# Altium integrated library NXP_60_26022015.IntLib: 1306 symbols (part 25 of 28)
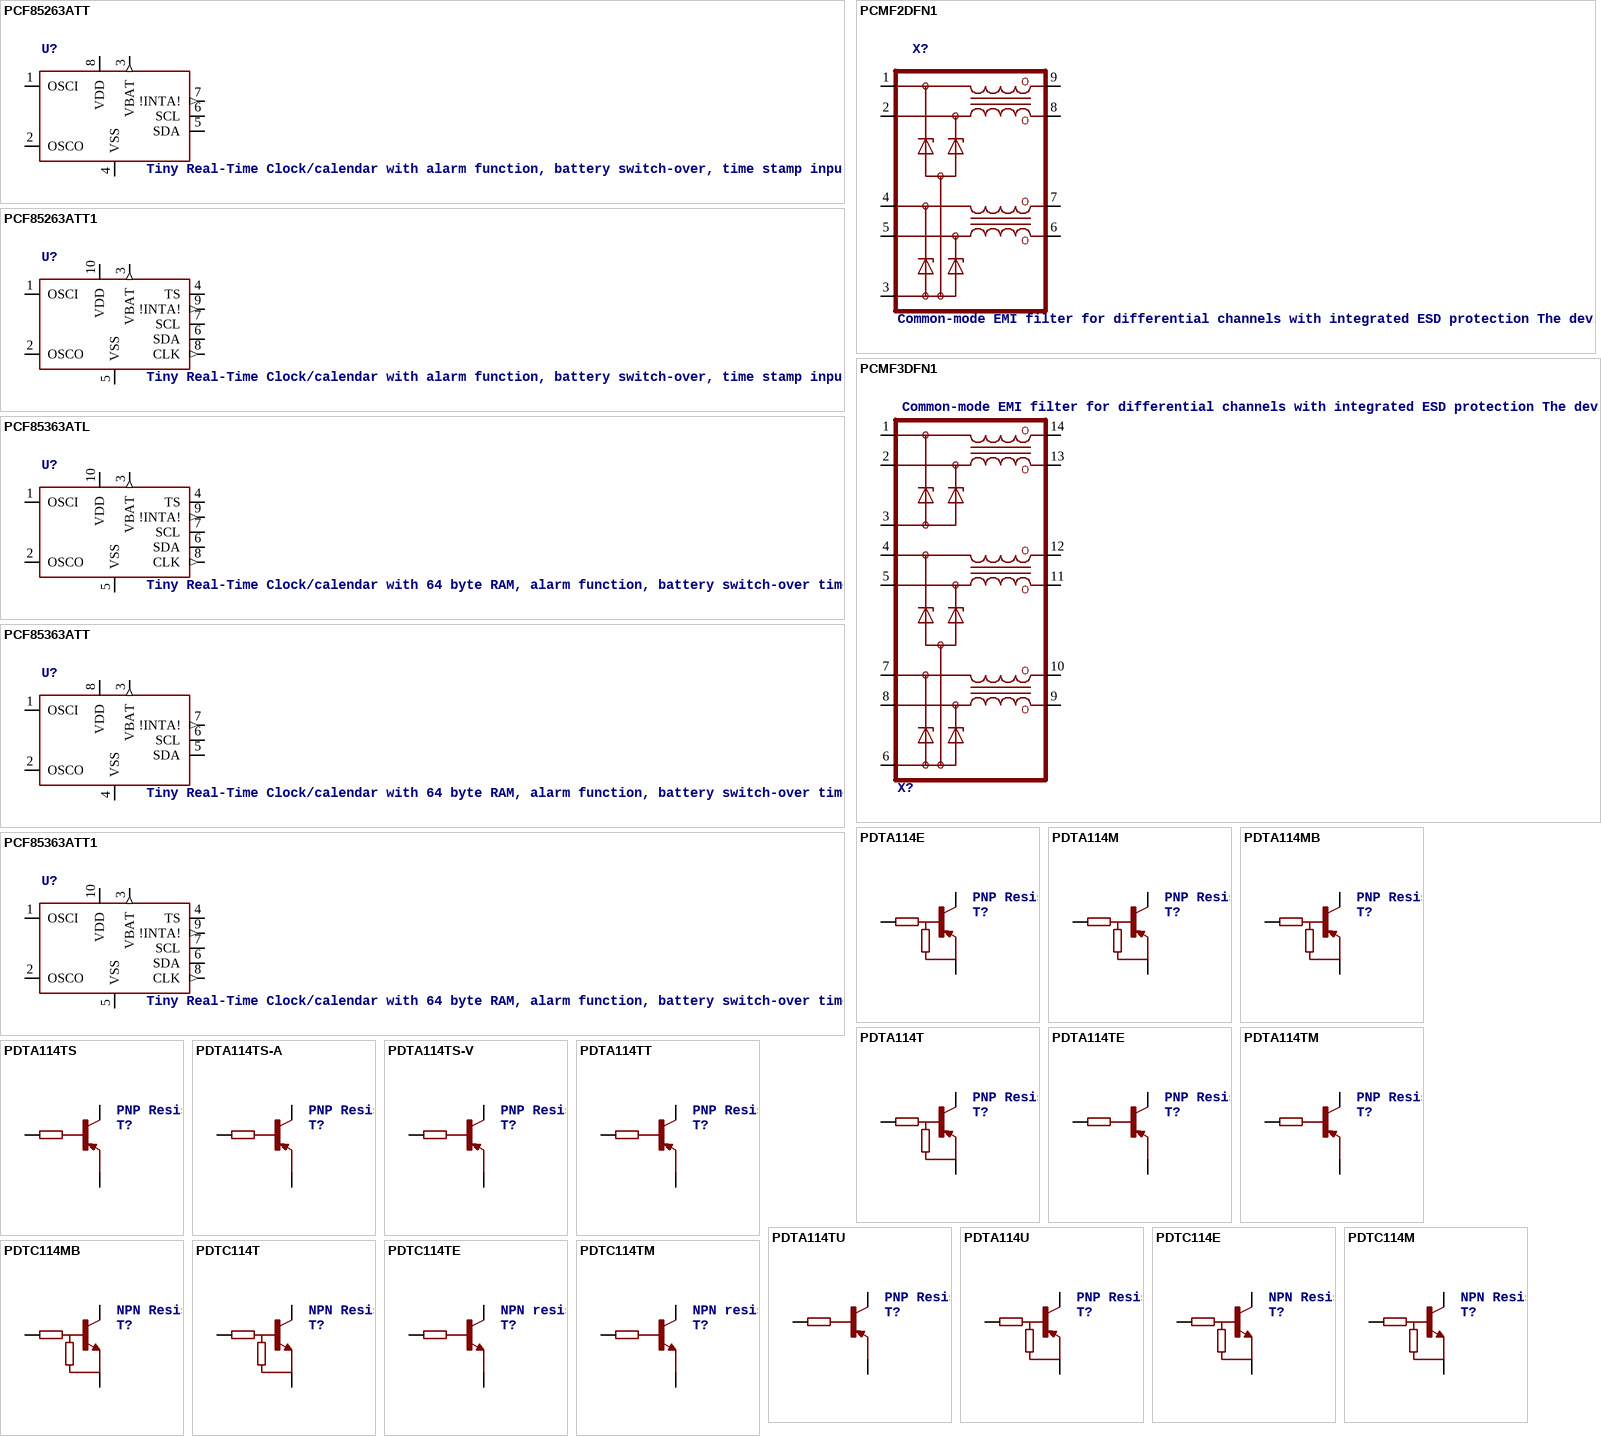
[diagram p209: symbols PCF85263ATT to PDTC114TM]

## PCF85363ATL
designator U?, comment Tiny Real-Time Clock/calendar with 64 byte RAM, alarm function, battery switch-over time stamp input, and I2C-buss The PCF85363A is a CMOS1 Real-Time Clock (RTC) and calendar optimized for low power consumption and with automatic switching to battery on main power loss. The RTC can also be configured as a stop-watch (elapsed time counter). Three time log registers triggered from battery switch-over as well as input driven events. Featuring clock output and two independent interrupt signals, two alarms, I2C interface and quartz crystal calibration, 64 byte battery backed-up RAM.    AAL Eindhoven MK
footprint SOT1197-1
pins: 1 OSCI, 2 OSCO, 3 VBAT (out), 4 TS, 5 VSS (power), 6 SDA, 7 SCL, 8 CLK (out), 9 !INTA! (out), 10 VDD (power)

## PCF85363ATT
designator U?, comment Tiny Real-Time Clock/calendar with 64 byte RAM, alarm function, battery switch-over time stamp input, and I2C-bus The PCF85363A is a CMOS1 Real-Time Clock (RTC) and calendar optimized for low power consumption and with automatic switching to battery on main power loss. The RTC can also be configured as a stop-watch (elapsed time counter). Three time log registers triggered from battery switch-over as well as input driven events. Featuring clock output and two independent interrupt signals, two alarms, I2C interface and quartz crystal calibration, 64 byte battery backed-up RAM.    AAL Eindhoven MK
footprint SOT505-1
pins: 1 OSCI, 2 OSCO, 3 VBAT (out), 4 VSS (power), 5 SDA, 6 SCL, 7 !INTA! (out), 8 VDD (power)

## PCF85363ATT1
designator U?, comment Tiny Real-Time Clock/calendar with 64 byte RAM, alarm function, battery switch-over time stamp input, and I2C-buss The PCF85363A is a CMOS1 Real-Time Clock (RTC) and calendar optimized for low power consumption and with automatic switching to battery on main power loss. The RTC can also be configured as a stop-watch (elapsed time counter). Three time log registers triggered from battery switch-over as well as input driven events. Featuring clock output and two independent interrupt signals, two alarms, I2C interface and quartz crystal calibration, 64 byte battery backed-up RAM.    AAL Eindhoven MK
footprint SOT552-1
pins: 1 OSCI, 2 OSCO, 3 VBAT (out), 4 TS, 5 VSS (power), 6 SDA, 7 SCL, 8 CLK (out), 9 !INTA! (out), 10 VDD (power)

## PCMF2DFN1
designator X?, comment Common-mode EMI filter for differential channels with integrated ESD protection The devices are common-mode ElectroMagnetic Interference (EMI) filters with integrated ElectroStatic Discharge (ESD) protection for two and three differential channels. The devices are designed to provide low insertion loss for differential high-speed signals on each channel while unwanted common-mode signals are attenuated. Each differential channel incorporates two signal lines that are coupled by integrated coils. Diodes provide protection to downstream components from ESD voltages up to 15 kV on each signal line.    AAL Eindhoven MK
footprint SOT1333-1
pins: 1, 2, 3 (power), 4, 5, 6, 7, 8, 9

## PCMF3DFN1
designator X?, comment Common-mode EMI filter for differential channels with integrated ESD protection The devices are common-mode ElectroMagnetic Interference (EMI) filters with integrated ElectroStatic Discharge (ESD) protection for two and three differential channels. The devices are designed to provide low insertion loss for differential high-speed signals on each channel while unwanted common-mode signals are attenuated. Each differential channel incorporates two signal lines that are coupled by integrated coils. Diodes provide protection to downstream components from ESD voltages up to 15 kV on each signal line.    AAL Eindhoven MK
footprint SOT1334-1
pins: 1, 2, 3, 4, 5, 6 (power), 7, 8, 9, 10, 11, 12, 13, 14

## PDTA114E
designator T?, comment PNP Resistor-Equipped Transistor (RET) family in small Surface-Mounted Device (SMD) plastic packages.   AAL Eindhoven MK
footprint SOT416
pins: 1 INPUT, 2 E, 3 C

## PDTA114M
designator T?, comment PNP Resistor-Equipped Transistor (RET) family in small Surface-Mounted Device (SMD) plastic packages.   AAL Eindhoven MK
footprint SOT883(B)
pins: 1 INPUT, 2 E, 3 C

## PDTA114MB
designator T?, comment PNP Resistor-Equipped Transistor (RET) family in small Surface-Mounted Device (SMD) plastic packages.   AAL Eindhoven MK
footprint SOT883(B)
pins: 1 INPUT, 2 E, 3 C

## PDTA114T
designator T?, comment PNP Resistor-Equipped Transistor (RET) family in small Surface-Mounted Device (SMD) plastic packages.   AAL Eindhoven MK
footprint SOT23
pins: 1 INPUT, 2 E, 3 C

## PDTA114TE
designator T?, comment PNP Resistor-Equipped Transistor (RET) family in small Surface-Mounted Device (SMD) plastic packages.   AAL Eindhoven MK
footprint SOT416
pins: 1 INPUT, 2 E, 3 C

## PDTA114TM
designator T?, comment PNP Resistor-Equipped Transistor (RET) family in small Surface-Mounted Device (SMD) plastic packages.   AAL Eindhoven MK
footprint SOT883(B)
pins: 1 INPUT, 2 E, 3 C

## PDTA114TS
designator T?, comment PNP Resistor-Equipped Transistor (RET) family in small Surface-Mounted Device (SMD) plastic packages.   AAL Eindhoven MK
footprint SOT54
pins: 1 INPUT, 2 C, 3 E

## PDTA114TS-A
designator T?, comment PNP Resistor-Equipped Transistor (RET) family in small Surface-Mounted Device (SMD) plastic packages.   AAL Eindhoven MK
footprint SOT54A
pins: 1 INPUT, 2 C, 3 E

## PDTA114TS-V
designator T?, comment PNP Resistor-Equipped Transistor (RET) family in small Surface-Mounted Device (SMD) plastic packages.   AAL Eindhoven MK
footprint SOT54V
pins: 1 INPUT, 2 C, 3 E

## PDTA114TT
designator T?, comment PNP Resistor-Equipped Transistor (RET) family in small Surface-Mounted Device (SMD) plastic packages.   AAL Eindhoven MK
footprint SOT23
pins: 1 INPUT, 2 E, 3 C

## PDTA114TU
designator T?, comment PNP Resistor-Equipped Transistor (RET) family in small Surface-Mounted Device (SMD) plastic packages.   AAL Eindhoven MK
footprint SOT323
pins: 1 INPUT, 2 E, 3 C

## PDTA114U
designator T?, comment PNP Resistor-Equipped Transistor (RET) family in small Surface-Mounted Device (SMD) plastic packages.   AAL Eindhoven MK
footprint SOT323
pins: 1 INPUT, 2 E, 3 C

## PDTC114E
designator T?, comment NPN Resistor-Equipped Transistor (RET) family in small Surface-Mounted Device (SMD) plastic packages.   AAL Eindhoven MK
footprint SOT416
pins: 1 INPUT, 2 E, 3 C

## PDTC114M
designator T?, comment NPN Resistor-Equipped Transistor (RET) family in small Surface-Mounted Device (SMD) plastic packages.   AAL Eindhoven MK
footprint SOT883(B)
pins: 1 INPUT, 2 E, 3 C

## PDTC114MB
designator T?, comment NPN Resistor-Equipped Transistor (RET) family in small Surface-Mounted Device (SMD) plastic packages.   AAL Eindhoven MK
footprint SOT883(B)
pins: 1 INPUT, 2 E, 3 C

## PDTC114T
designator T?, comment NPN Resistor-Equipped Transistor (RET) family in small Surface-Mounted Device (SMD) plastic packages.   AAL Eindhoven MK
footprint SOT23
pins: 1 INPUT, 2 E, 3 C

## PDTC114TE
designator T?, comment NPN resistor-equipped transistors; R1 = 10 kΩ, R2 = open NPN Resistor-Equipped Transistor (RET) family in small Surface-Mounted Device (SMD) plastic packages.    AAL Eindhoven MK
footprint SOT416
pins: 1 INPUT, 2 E, 3 C

## PDTC114TM
designator T?, comment NPN resistor-equipped transistors; R1 = 10 kΩ, R2 = open NPN Resistor-Equipped Transistor (RET) family in small Surface-Mounted Device (SMD) plastic packages.    AAL Eindhoven MK
footprint SOT883(B)
pins: 1 INPUT, 2 E, 3 C

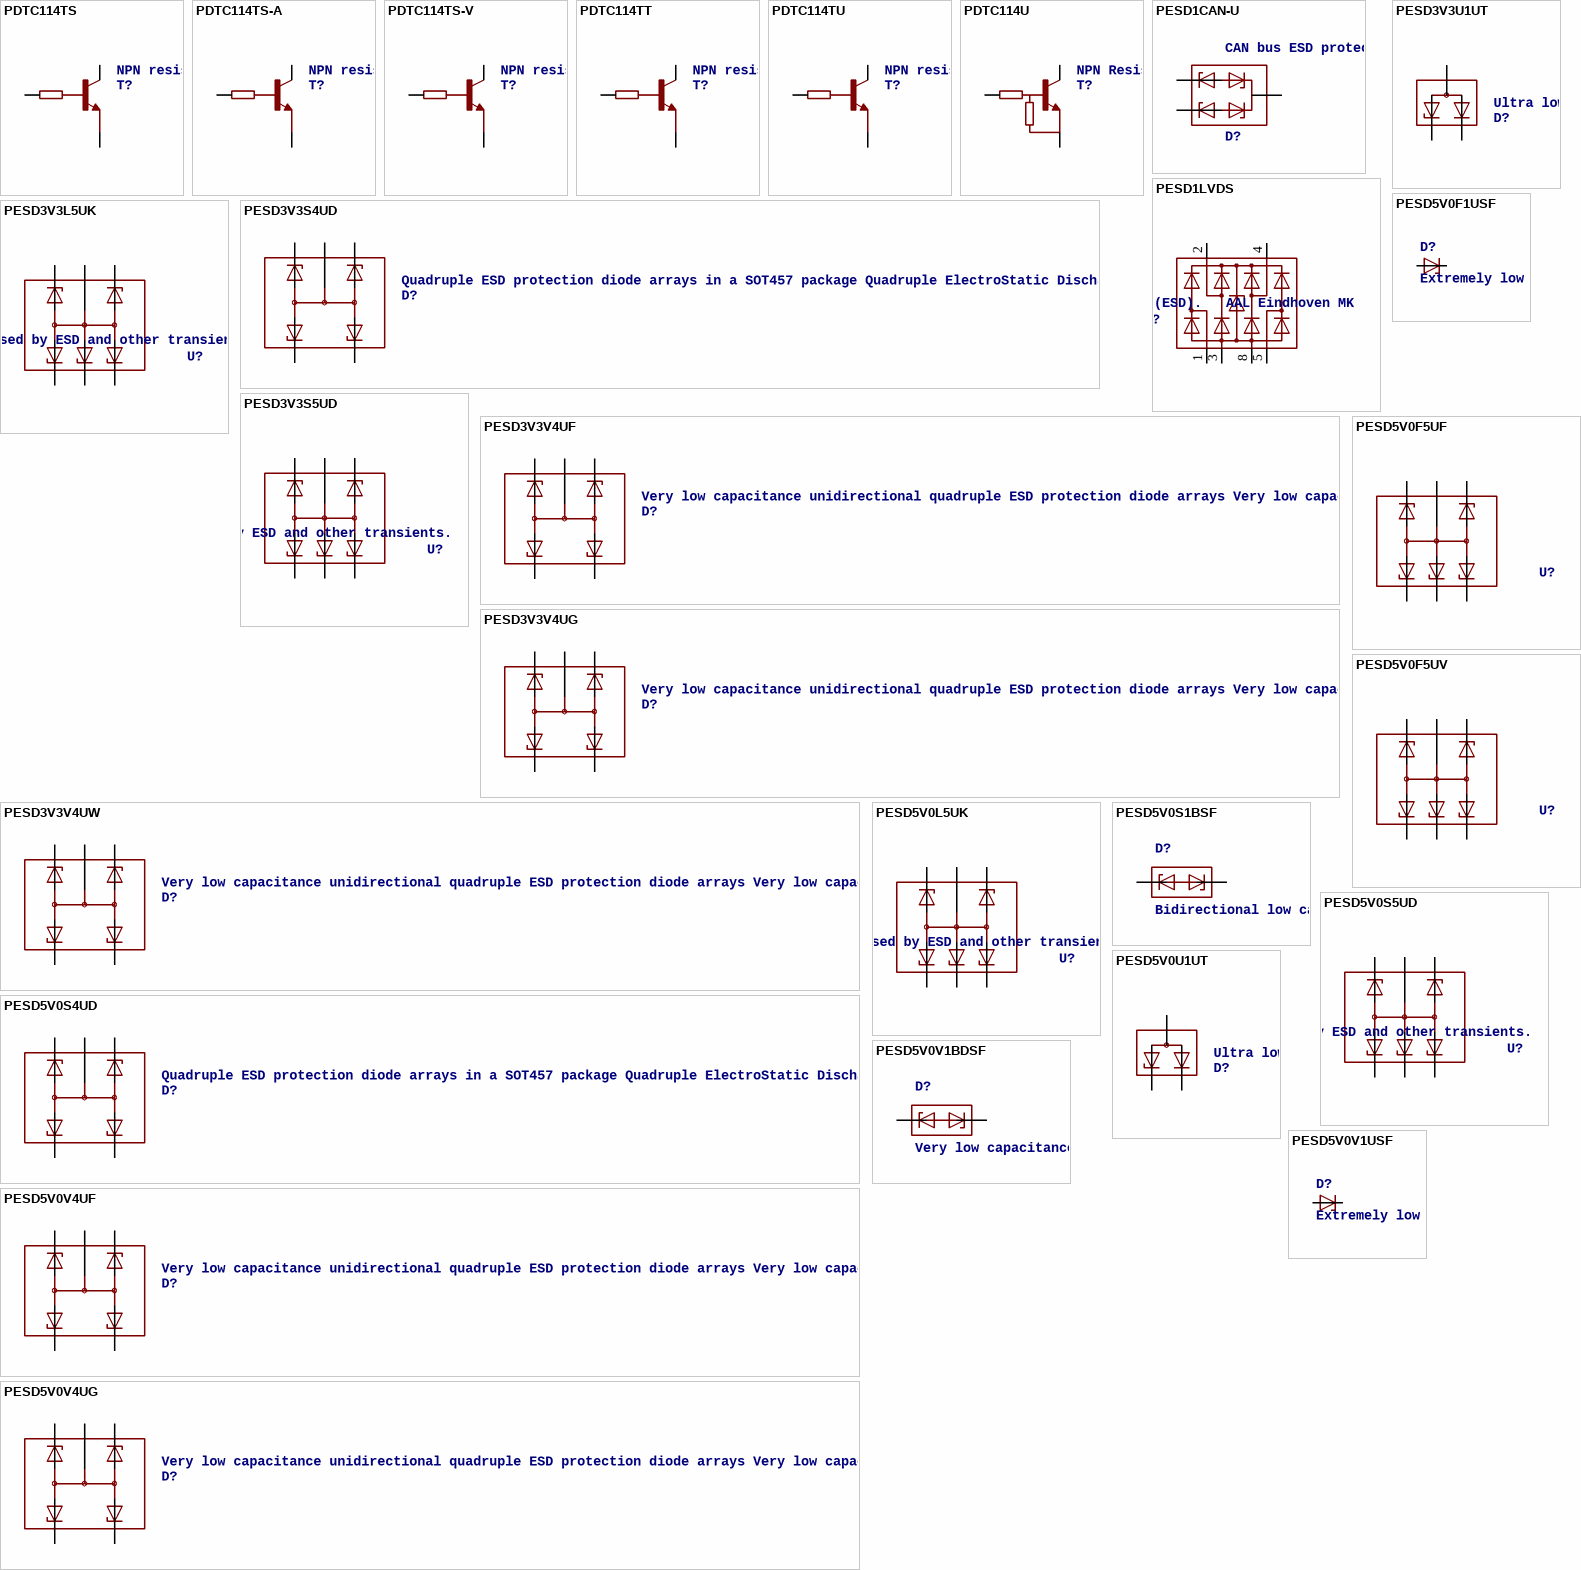
[diagram p167: symbols PDTC114TS to PESD5V0V4UG]

## PDTC114TS
designator T?, comment NPN resistor-equipped transistors; R1 = 10 kΩ, R2 = open NPN Resistor-Equipped Transistor (RET) family in small Surface-Mounted Device (SMD) plastic packages.    AAL Eindhoven MK
footprint SOT54
pins: 1 INPUT, 2 C, 3 E

## PDTC114TS-A
designator T?, comment NPN resistor-equipped transistors; R1 = 10 kΩ, R2 = open NPN Resistor-Equipped Transistor (RET) family in small Surface-Mounted Device (SMD) plastic packages.    AAL Eindhoven MK
footprint SOT54A
pins: 1 INPUT, 2 C, 3 E

## PDTC114TS-V
designator T?, comment NPN resistor-equipped transistors; R1 = 10 kΩ, R2 = open NPN Resistor-Equipped Transistor (RET) family in small Surface-Mounted Device (SMD) plastic packages.    AAL Eindhoven MK
footprint SOT54V
pins: 1 INPUT, 2 C, 3 E

## PDTC114TT
designator T?, comment NPN resistor-equipped transistors; R1 = 10 kΩ, R2 = open NPN Resistor-Equipped Transistor (RET) family in small Surface-Mounted Device (SMD) plastic packages.    AAL Eindhoven MK
footprint SOT23
pins: 1 INPUT, 2 E, 3 C

## PDTC114TU
designator T?, comment NPN resistor-equipped transistors; R1 = 10 kΩ, R2 = open NPN Resistor-Equipped Transistor (RET) family in small Surface-Mounted Device (SMD) plastic packages.    AAL Eindhoven MK
footprint SOT323
pins: 1 INPUT, 2 E, 3 C

## PDTC114U
designator T?, comment NPN Resistor-Equipped Transistor (RET) family in small Surface-Mounted Device (SMD) plastic packages.   AAL Eindhoven MK
footprint SOT323
pins: 1 INPUT, 2 E, 3 C

## PESD1CAN-U
designator D?, comment CAN bus ESD protection diode ElectroStatic Discharge (ESD) protection diode in a very small SOT323 (SC-70 ) Surface-Mounted Device (SMD) plastic package designed to protect two automotive Controller Area Network (CAN) bus lines from the damage caused by ESD and other transients.    AAL Eindhoven MK
footprint SOT323
pins: 1 K1, 2 K2, 3 CK

## PESD1LVDS
designator ?, comment ESD protection for in-vehicle ultra high-speed interfaces The device is designed to protect in-vehicle ultra high-speed interfaces in automotive applications, such as Low-Voltage Differential Signaling (LVDS), High-Definition Multimedia Interface (HDMI) and DisplayPort interfaces against ElectroStatic Discharge (ESD).   AAL Eindhoven MK
footprint SOT1165-1
pins: 1 CH1-, 2 CH1+, 3 GND@1 (power), 4 CH2-, 5 CH2+, 8 GND@2 (power)

## PESD3V3L5UK
designator U?, comment Low capacitance unidirectional fivefold ESD protection diode arrays Low capacitance unidirectional fivefold ElectroStatic Discharge (ESD) protection diode arrays in a leadless ultra small SOT891 Surface-Mounted Device (SMD) plastic package designed to protect up to five unidirectional signal lines from the damage caused by ESD and other transients.    AAL Eindhoven MK
footprint SOT891
pins: 1 K1, 2 CA, 3 K2, 4 K3, 5 K4, 6 K5

## PESD3V3S4UD
designator D?, comment Quadruple ESD protection diode arrays in a SOT457 package Quadruple ElectroStatic Discharge (ESD) protection diode arrays in a SOT457 (SC-74) small Surface-Mounted Device (SMD) plastic package designed to protect up to 4 signal lines from the damage caused by ESD and other transients.    AAL Eindhoven MK
footprint SOT457
pins: 1 K1, 2 5 CA, 3 K2, 4 K3, 6 K4

## PESD3V3S5UD
designator U?, comment Fivefold ESD protection diode arrays Fivefold ElectroStatic Discharge (ESD) protection diode arrays in a SOT457 (SC-74) small Surface-Mounted Device (SMD) plastic package designed to protect up to ﬁve signal lines from the damage caused by ESD and other transients.    AAL Eindhoven MK
footprint SOT457
pins: 1 K1, 2 CA, 3 K2, 4 K3, 5 K4, 6 K5

## PESD3V3U1UT
designator D?, comment Ultra low capacitance ESD protection diode in SOT23 package Ultra low capacitance ElectroStatic Discharge (ESD) protection diode in a SOT23 (TO-236AB) small SMD plastic package designed to protect one high-speed data line from the damage caused by ESD and other transients.    AAL Eindhoven MK
footprint SOT23
pins: 1 KESD, 2 KD, 3 CA

## PESD3V3V4UF
designator D?, comment Very low capacitance unidirectional quadruple ESD protection diode arrays Very low capacitance unidirectional quadruple ElectroStatic Discharge (ESD) protection diode arrays in small Surface-Mounted Device (SMD) plastic packages designed to protect up to four signal lines from the damage caused by ESD and other transients.    AAL Eindhoven MK
footprint SOT886
pins: 1 K1, 2 5 CA, 3 K2, 4 K3, 6 K4

## PESD3V3V4UG
designator D?, comment Very low capacitance unidirectional quadruple ESD protection diode arrays Very low capacitance unidirectional quadruple ElectroStatic Discharge (ESD) protection diode arrays in small Surface-Mounted Device (SMD) plastic packages designed to protect up to four signal lines from the damage caused by ESD and other transients.    AAL Eindhoven MK
footprint SOT353-1
pins: 1 K1, 2 CA, 3 K2, 4 K3, 5 K4

## PESD3V3V4UW
designator D?, comment Very low capacitance unidirectional quadruple ESD protection diode arrays Very low capacitance unidirectional quadruple ElectroStatic Discharge (ESD) protection diode arrays in small Surface-Mounted Device (SMD) plastic packages designed to protect up to four signal lines from the damage caused by ESD and other transients.    AAL Eindhoven MK
footprint SOT665
pins: 1 K1, 2 CA, 3 K2, 4 K3, 5 K4

## PESD5V0F1USF
designator D?, comment Extremely low capacitance unidirectional ESD protection diode Extremely low capacitance unidirectional ElectroStatic Discharge (ESD) protection diode in a DSN0603-2 (SOD962) leadless ultra small Surface-Mounted Device (SMD) package designed to protect one signal line from the damage caused by ESD and other transients.    AAL Eindhoven MK
footprint SOD962
pins: 1 K, 2 A

## PESD5V0F5UF
designator U?, comment Femtofarad unidirectional fivefold ESD protection array Femtofarad capacitance unidirectional ElectroStatic Discharge (ESD) protection diode array designed to protect up to five signal lines from the damage caused by ESD and other transients. The device is encapsulated in a leadless ultra small DFN1410-6 (SOT886) Surface-Mounted Device (SMD) plastic package. The combination of extremely low capacitance, high ESD maximum rating and ultra small package makes the device ideal for high-speed data line protection and antenna protection applications.    AAL Eindhoven MK
footprint SOT886
pins: 1 K1, 2 CA, 3 K2, 4 K3, 5 K4, 6 K5

## PESD5V0F5UV
designator U?, comment Femtofarad unidirectional fivefold ESD protection array Femtofarad capacitance unidirectional ElectroStatic Discharge (ESD) protection diode array designed to protect up to five signal lines from the damage caused by ESD and other transients. The device is encapsulated in an ultra small and flat lead SOT666 Surface-Mounted Device (SMD) plastic package. The combination of extremely low capacitance, high ESD maximum rating and ultra small package makes the device ideal for high-speed data line protection and antenna protection applications.    AAL Eindhoven MK
footprint SOT666
pins: 1 K1, 2 CA, 3 K2, 4 K3, 5 K4, 6 K5

## PESD5V0L5UK
designator U?, comment Low capacitance unidirectional fivefold ESD protection diode arrays Low capacitance unidirectional fivefold ElectroStatic Discharge (ESD) protection diode arrays in a leadless ultra small SOT891 Surface-Mounted Device (SMD) plastic package designed to protect up to five unidirectional signal lines from the damage caused by ESD and other transients.    AAL Eindhoven MK
footprint SOT891
pins: 1 K1, 2 CA, 3 K2, 4 K3, 5 K4, 6 K5

## PESD5V0S1BSF
designator D?, comment Bidirectional low capacitance ESD protection diode Low capacitance bidirectional ElectroStatic Discharge (ESD) protection diode in a SOD962 leadless ultra small Surface-Mounted Device (SMD) package designed to protect one signal line from the damage caused by ESD and other transients.    AAL Eindhoven MK
footprint SOD962
pins: 1 K1, 2 K2

## PESD5V0S4UD
designator D?, comment Quadruple ESD protection diode arrays in a SOT457 package Quadruple ElectroStatic Discharge (ESD) protection diode arrays in a SOT457 (SC-74) small Surface-Mounted Device (SMD) plastic package designed to protect up to 4 signal lines from the damage caused by ESD and other transients.    AAL Eindhoven MK
footprint SOT457
pins: 1 K1, 2 5 CA, 3 K2, 4 K3, 6 K4

## PESD5V0S5UD
designator U?, comment Fivefold ESD protection diode arrays Fivefold ElectroStatic Discharge (ESD) protection diode arrays in a SOT457 (SC-74) small Surface-Mounted Device (SMD) plastic package designed to protect up to ﬁve signal lines from the damage caused by ESD and other transients.    AAL Eindhoven MK
footprint SOT457
pins: 1 K1, 2 CA, 3 K2, 4 K3, 5 K4, 6 K5

## PESD5V0U1UT
designator D?, comment Ultra low capacitance ESD protection diode in SOT23 package Ultra low capacitance ElectroStatic Discharge (ESD) protection diode in a SOT23 (TO-236AB) small SMD plastic package designed to protect one high-speed data line from the damage caused by ESD and other transients.    AAL Eindhoven MK
footprint SOT23
pins: 1 KESD, 2 KD, 3 CA

## PESD5V0V1BDSF
designator D?, comment Very low capacitance bidirectional ESD protection diode Very low capacitance bidirectional ElectroStatic Discharge (ESD) protection diode in a DSN0603-2 (SOD962) leadless ultra small Surface-Mounted Device (SMD) package designed to protect one signal line from the damage caused by ESD and other transients.    AAL Eindhoven MK
footprint SOD962
pins: 1 K1, 2 K2

## PESD5V0V1USF
designator D?, comment Extremely low capacitance unidirectional ESD protection diode Very low capacitance unidirectional ElectroStatic Discharge (ESD) protection diode designed to protect one signal line from the damage caused by ESD and other transients. The device is encapsulated in a leadless super small DSN0603-2 (SOD962) Surface-Mounted Device (SMD) package.    AAL Eindhoven MK
footprint SOD962
pins: 1 K, 2 A

## PESD5V0V4UF
designator D?, comment Very low capacitance unidirectional quadruple ESD protection diode arrays Very low capacitance unidirectional quadruple ElectroStatic Discharge (ESD) protection diode arrays in small Surface-Mounted Device (SMD) plastic packages designed to protect up to four signal lines from the damage caused by ESD and other transients.    AAL Eindhoven MK
footprint SOT886
pins: 1 K1, 2 5 CA, 3 K2, 4 K3, 6 K4

## PESD5V0V4UG
designator D?, comment Very low capacitance unidirectional quadruple ESD protection diode arrays Very low capacitance unidirectional quadruple ElectroStatic Discharge (ESD) protection diode arrays in small Surface-Mounted Device (SMD) plastic packages designed to protect up to four signal lines from the damage caused by ESD and other transients.    AAL Eindhoven MK
footprint SOT353-1
pins: 1 K1, 2 CA, 3 K2, 4 K3, 5 K4

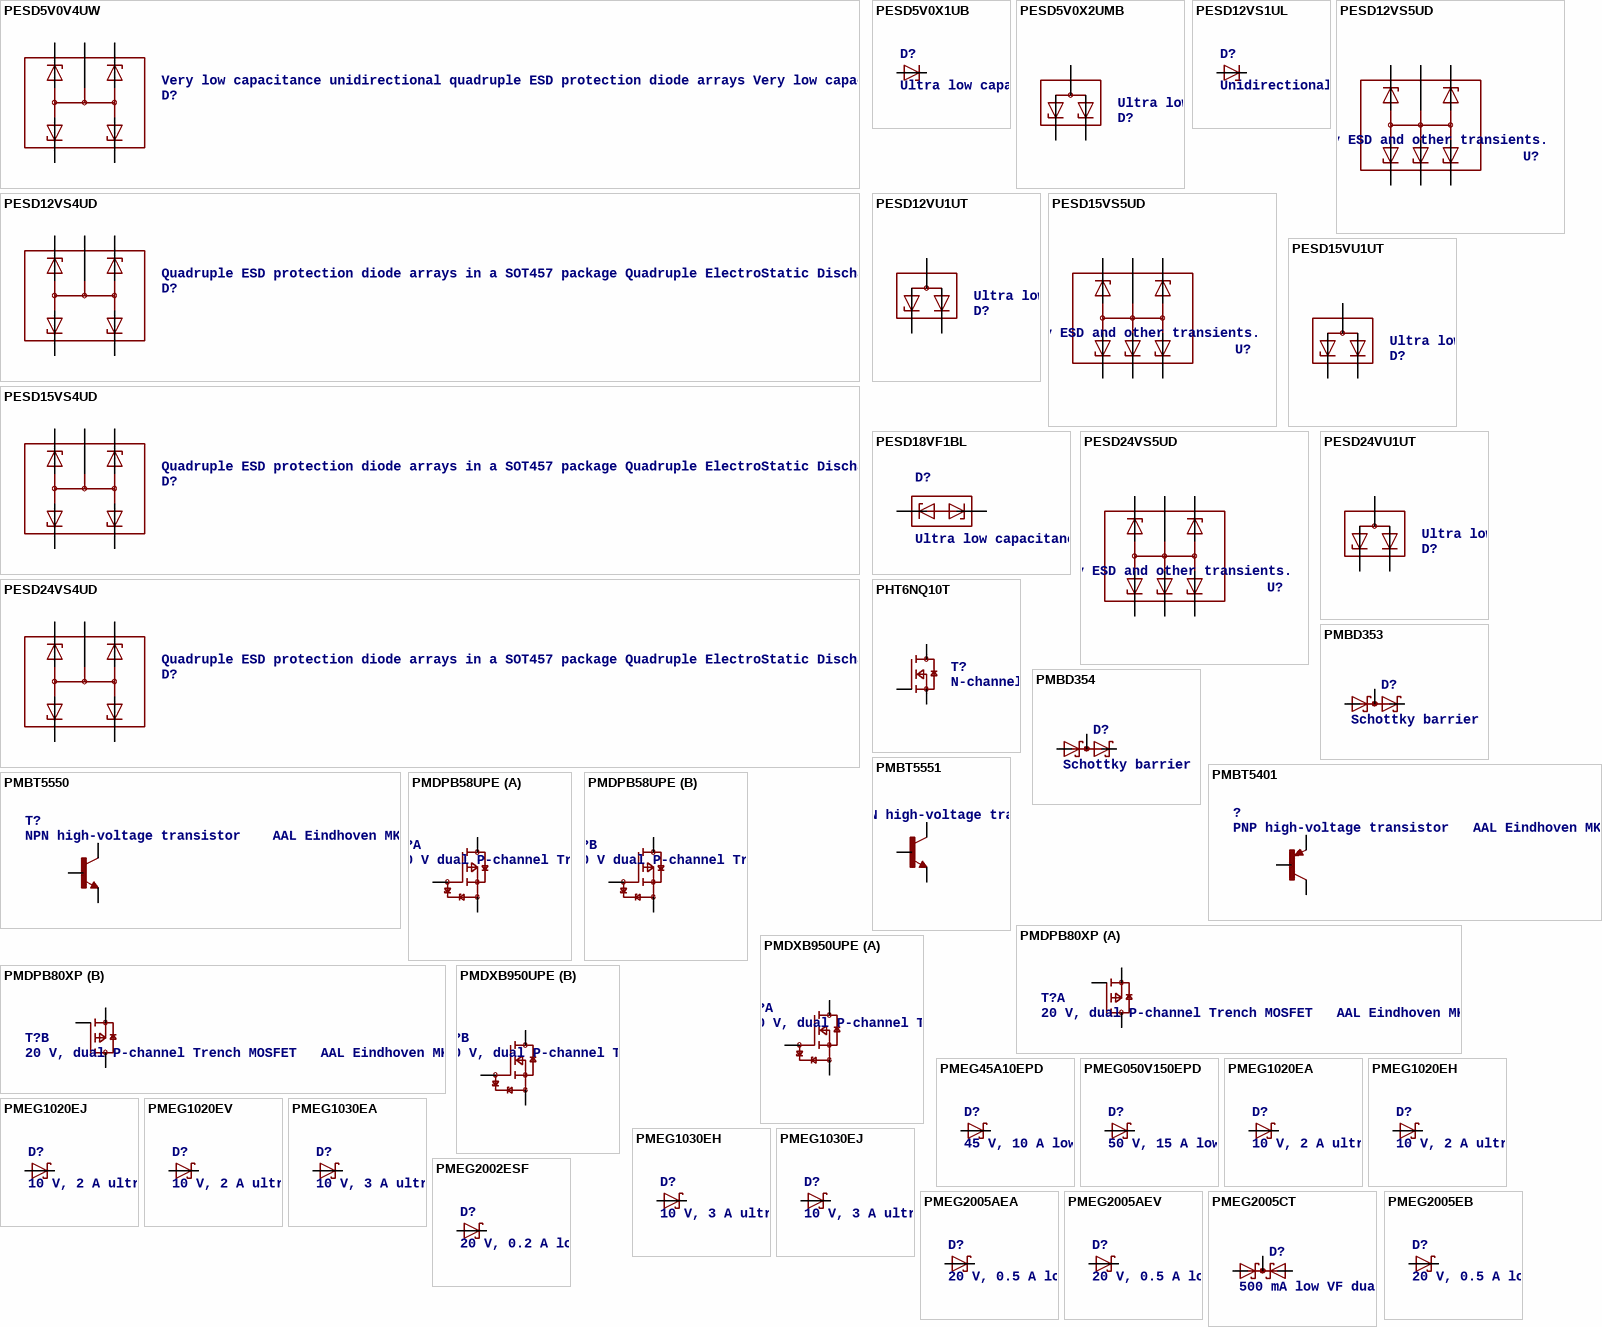
[diagram p168: symbols PESD5V0V4UW to PMEG2005EB]

## PESD5V0V4UW
designator D?, comment Very low capacitance unidirectional quadruple ESD protection diode arrays Very low capacitance unidirectional quadruple ElectroStatic Discharge (ESD) protection diode arrays in small Surface-Mounted Device (SMD) plastic packages designed to protect up to four signal lines from the damage caused by ESD and other transients.    AAL Eindhoven MK
footprint SOT665
pins: 1 K1, 2 CA, 3 K2, 4 K3, 5 K4

## PESD5V0X1UB
designator D?, comment Ultra low capacitance unidirectional ESD protection diode Ultra low capacitance unidirectional ElectroStatic Discharge (ESD) protection diode in a SOD523 (SC-79) ultra small and flat lead Surface-Mounted Device (SMD) plastic package designed to protect one signal line from the damage caused by ESD and other transients. The combination of extremely low capacitance and ultra low clamping voltage makes the device ideal for high-speed data line protection applications.    AAL Eindhoven MK
footprint SOD523
pins: 1 K, 2 A

## PESD5V0X2UMB
designator D?, comment Ultra low capacitance unidirectional double ESD protection diode Ultra low capacitance unidirectional double ElectroStatic Discharge (ESD) protection diode in a DFN1006B-3 (SOT883B) leadless ultra small Surface-Mounted Device (SMD) plastic package designed to protect up to two signal lines from the damage caused by ESD and other transients.    AAL Eindhoven MK
footprint SOT883(B)
pins: 1 K1, 2 K2, 3 CA

## PESD12VS1UL
designator D?, comment Unidirectional ESD protection diodes Unidirectional ElectroStatic Discharge (ESD) protection diodes in a SOD882 leadless ultra small Surface Mounted Device (SMD) plastic package designed to protect one signal line from the damage caused by ESD and other transients.    AAL Eindhoven MK
footprint SOD882(T)
pins: 1 K, 2 A

## PESD12VS4UD
designator D?, comment Quadruple ESD protection diode arrays in a SOT457 package Quadruple ElectroStatic Discharge (ESD) protection diode arrays in a SOT457 (SC-74) small Surface-Mounted Device (SMD) plastic package designed to protect up to 4 signal lines from the damage caused by ESD and other transients.    AAL Eindhoven MK
footprint SOT457
pins: 1 K1, 2 5 CA, 3 K2, 4 K3, 6 K4

## PESD12VS5UD
designator U?, comment Fivefold ESD protection diode arrays Fivefold ElectroStatic Discharge (ESD) protection diode arrays in a SOT457 (SC-74) small Surface-Mounted Device (SMD) plastic package designed to protect up to ﬁve signal lines from the damage caused by ESD and other transients.    AAL Eindhoven MK
footprint SOT457
pins: 1 K1, 2 CA, 3 K2, 4 K3, 5 K4, 6 K5

## PESD12VU1UT
designator D?, comment Ultra low capacitance ESD protection diode in SOT23 package Ultra low capacitance ElectroStatic Discharge (ESD) protection diode in a SOT23 (TO-236AB) small SMD plastic package designed to protect one high-speed data line from the damage caused by ESD and other transients.    AAL Eindhoven MK
footprint SOT23
pins: 1 KESD, 2 KD, 3 CA

## PESD15VS4UD
designator D?, comment Quadruple ESD protection diode arrays in a SOT457 package Quadruple ElectroStatic Discharge (ESD) protection diode arrays in a SOT457 (SC-74) small Surface-Mounted Device (SMD) plastic package designed to protect up to 4 signal lines from the damage caused by ESD and other transients.    AAL Eindhoven MK
footprint SOT457
pins: 1 K1, 2 5 CA, 3 K2, 4 K3, 6 K4

## PESD15VS5UD
designator U?, comment Fivefold ESD protection diode arrays Fivefold ElectroStatic Discharge (ESD) protection diode arrays in a SOT457 (SC-74) small Surface-Mounted Device (SMD) plastic package designed to protect up to ﬁve signal lines from the damage caused by ESD and other transients.    AAL Eindhoven MK
footprint SOT457
pins: 1 K1, 2 CA, 3 K2, 4 K3, 5 K4, 6 K5

## PESD15VU1UT
designator D?, comment Ultra low capacitance ESD protection diode in SOT23 package Ultra low capacitance ElectroStatic Discharge (ESD) protection diode in a SOT23 (TO-236AB) small SMD plastic package designed to protect one high-speed data line from the damage caused by ESD and other transients.    AAL Eindhoven MK
footprint SOT23
pins: 1 KESD, 2 KD, 3 CA

## PESD18VF1BL
designator D?, comment Ultra low capacitance bidirectional ESD protection diode Ultra low capacitance bidirectional ElectroStatic Discharge (ESD) protection diode in a DFN1006-2 (SOD882) leadless ultra small Surface-Mounted Device (SMD) plastic package designed to protect one signal line from the damage caused by ESD and other transients.    AAL Eindhoven MK
footprint SOD882(T)
pins: 1 K1, 2 K2

## PESD24VS4UD
designator D?, comment Quadruple ESD protection diode arrays in a SOT457 package Quadruple ElectroStatic Discharge (ESD) protection diode arrays in a SOT457 (SC-74) small Surface-Mounted Device (SMD) plastic package designed to protect up to 4 signal lines from the damage caused by ESD and other transients.    AAL Eindhoven MK
footprint SOT457
pins: 1 K1, 2 5 CA, 3 K2, 4 K3, 6 K4

## PESD24VS5UD
designator U?, comment Fivefold ESD protection diode arrays Fivefold ElectroStatic Discharge (ESD) protection diode arrays in a SOT457 (SC-74) small Surface-Mounted Device (SMD) plastic package designed to protect up to ﬁve signal lines from the damage caused by ESD and other transients.    AAL Eindhoven MK
footprint SOT457
pins: 1 K1, 2 CA, 3 K2, 4 K3, 5 K4, 6 K5

## PESD24VU1UT
designator D?, comment Ultra low capacitance ESD protection diode in SOT23 package Ultra low capacitance ElectroStatic Discharge (ESD) protection diode in a SOT23 (TO-236AB) small SMD plastic package designed to protect one high-speed data line from the damage caused by ESD and other transients.    AAL Eindhoven MK
footprint SOT23
pins: 1 KESD, 2 KD, 3 CA

## PHT6NQ10T
designator T?, comment N-channel TrenchMOS(tm) transistor N-channel enhancement mode field-effect transistor in a plastic envelope using ’trench’ technology.    AAL Eindhoven MK
footprint SOT223
pins: 1 G, 2 4 D, 3 S

## PMBD353
designator D?, comment Schottky barrier double diode  Planar Schottky barrier double diode in a SOT23 small plastic SMD package.   AAL Eindhoven MK
footprint SOT23
pins: 1 K2, 2 A1, 3 K1A2

## PMBD354
designator D?, comment Schottky barrier double diode  Planar Schottky barrier double diode in a SOT23 small plastic SMD package.   AAL Eindhoven MK
footprint SOT23
pins: 1 K2, 2 A1, 3 K1A2

## PMBT5401
designator ?, comment PNP high-voltage transistor   AAL Eindhoven MK
footprint SOT23
pins: 1 B, 2 E, 3 C

## PMBT5550
designator T?, comment NPN high-voltage transistor    AAL Eindhoven MK
footprint SOT23
pins: 1 B, 2 E, 3 C

## PMBT5551
designator T?, comment NPN high-voltage transistor NPN high-voltage transistor in a SOT23 plastic package. PNP complement: PMBT5401.    AAL Eindhoven MK
footprint SOT23
pins: 1 B, 2 E, 3 C

## PMDPB58UPE
designator T?, comment 20 V dual P-channel Trench MOSFET  Dual small-signal P-channel enhancement mode Field-Effect Transistor (FET) in a leadless medium power DFN2020-6 (SOT1118) Surface-Mounted Device (SMD) plastic package using Trench MOSFET technology.   AAL Eindhoven MK
footprint SOT1118
part A pins: 1 S, 2 G, 6 7 D
part B pins: 3 D, 4 8 S, 5 G

## PMDPB80XP
designator T?, comment 20 V, dual P-channel Trench MOSFET   AAL Eindhoven MK
footprint SOT1118
part A pins: 1 S, 2 G, 6 7 D
part B pins: 3 8 D, 4 S, 5 G

## PMDXB950UPE
designator T?, comment 20 V, dual P-channel Trench MOSFET Dual P-channel enhancement mode Field-Effect Transistor (FET) in a leadless ultra small DFN1010B-6 (SOT1216) Surface-Mounted Device (SMD) plastic package using Trench MOSFET technology.    AAL Eindhoven MK
footprint SOT1216
part A pins: 1 S, 2 G, 6 D
part B pins: 3 D, 4 S, 5 G

## PMEG45A10EPD
designator D?, comment 45 V, 10 A low VF MEGA Schottky barrier rectifier Planar Maximum Efficiency General Application (MEGA) Schottky barrier rectifier with an integrated guard ring for stress protection, encapsulated in a SOT1289 (CFP15) power and flat lead Surface-Mounted Device (SMD) plastic package.    AAL Eindhoven MK
12NC: 9340 682 05146
footprint SOT1289
pins: 1 2 A, 3 K

## PMEG050V150EPD
designator D?, comment 50 V, 15 A low VF MEGA Schottky barrier rectifier Planar Maximum Efficiency General Application (MEGA) Schottky barrier rectifier with an integrated guard ring for stress protection, encapsulated in a CFP15 (SOT1289) power and flat lead Surface-Mounted Device (SMD) plastic package.   AAL Eindhoven MK
footprint SOT1289
pins: 1 2 A, 3 K

## PMEG1020EA
designator D?, comment 10 V, 2 A ultra low VF MEGA Schottky barrier rectifiers Planar Maximum Efficiency General Application (MEGA) Schottky barrier rectifiers with an integrated guard ring for stress protection, encapsulated in small and flat lead plastic SMD packages.   AAL Eindhoven MK
footprint SOD323(F)
pins: 1 K, 2 A

## PMEG1020EH
designator D?, comment 10 V, 2 A ultra low VF MEGA Schottky barrier rectifiers Planar Maximum Efficiency General Application (MEGA) Schottky barrier rectifiers with an integrated guard ring for stress protection, encapsulated in small and flat lead plastic SMD packages.   AAL Eindhoven MK
footprint SOD123F
pins: 1 K, 2 A

## PMEG1020EJ
designator D?, comment 10 V, 2 A ultra low VF MEGA Schottky barrier rectifiers Planar Maximum Efficiency General Application (MEGA) Schottky barrier rectifiers with an integrated guard ring for stress protection, encapsulated in small and flat lead plastic SMD packages.   AAL Eindhoven MK
footprint SOD323(F)
pins: 1 K, 2 A

## PMEG1020EV
designator D?, comment 10 V, 2 A ultra low VF MEGA Schottky barrier rectifiers Planar Maximum Efficiency General Application (MEGA) Schottky barrier rectifiers with an integrated guard ring for stress protection, encapsulated in small and flat lead plastic SMD packages.   AAL Eindhoven MK
footprint SOT666
pins: 1 2 5 6 K, 3 4 A

## PMEG1030EA
designator D?, comment 10 V, 3 A ultra low VF MEGA Schottky barrier rectifiers Planar Maximum Efficiency General Application (MEGA) Schottky barrier rectifiers with an integrated guard ring for stress protection, encapsulated in small and flat lead plastic SMD packages.   AAL Eindhoven MK
footprint SOD323(F)
pins: 1 K, 2 A

## PMEG1030EH
designator D?, comment 10 V, 3 A ultra low VF MEGA Schottky barrier rectifiers Planar Maximum Efficiency General Application (MEGA) Schottky barrier rectifiers with an integrated guard ring for stress protection, encapsulated in small and flat lead plastic SMD packages.   AAL Eindhoven MK
footprint SOD123F
pins: 1 K, 2 A

## PMEG1030EJ
designator D?, comment 10 V, 3 A ultra low VF MEGA Schottky barrier rectifiers Planar Maximum Efficiency General Application (MEGA) Schottky barrier rectifiers with an integrated guard ring for stress protection, encapsulated in small and flat lead plastic SMD packages.   AAL Eindhoven MK
footprint SOD323(F)
pins: 1 K, 2 A

## PMEG2002ESF
designator D?, comment 20 V, 0.2 A low VF MEGA Schottky barrier rectifier Planar Maximum Efficiency General Application (MEGA) Schottky barrier rectifier with an integrated guard ring for stress protection in a DSN0603-2 (SOD962-2) leadless ultra small Surface-Mounted Device (SMD) package.    AAL Eindhoven MK
footprint SOD962
pins: 1 K, 2 A

## PMEG2005AEA
designator D?, comment 20 V, 0.5 A low VF MEGA Schottky barrier rectifier  Planar Maximum Efficiency General Application (MEGA) Schottky barrier rectifier with an integrated guard ring for stress protection, encapsulated in a Surface-Mounted Device (SMD)     AAL Eindhoven MK
footprint SOD323(F)
pins: 1 K, 2 A

## PMEG2005AEV
designator D?, comment 20 V, 0.5 A low VF MEGA Schottky barrier rectifier  Planar Maximum Efficiency General Application (MEGA) Schottky barrier rectifier with an integrated guard ring for stress protection, encapsulated in a Surface-Mounted Device (SMD)     AAL Eindhoven MK
footprint SOT666
pins: 1 2 5 6 K, 3 4 A

## PMEG2005CT
designator D?, comment 500 mA low VF dual MEGA Schottky barrier rectifier  Planar Maximum Efficiency General Application (MEGA) Schottky barrier rectifier in common cathode configuration with an integrated guard ring for stress protection, encapsulated in a SOT23 (TO-236AB) small Surface-Mounted Device (SMD) plastic package.   AAL Eindhoven MK
FARNELL: 1972710
footprint SOT23
pins: 1 A1, 2 A2, 3 K1K2

## PMEG2005EB
designator D?, comment 20 V, 0.5 A low VF MEGA Schottky barrier rectifier  Planar Maximum Efficiency General Application (MEGA) Schottky barrier rectifier with an integrated guard ring for stress protection, encapsulated in a Surface-Mounted Device (SMD)     AAL Eindhoven MK
footprint SOD523
pins: 1 K, 2 A

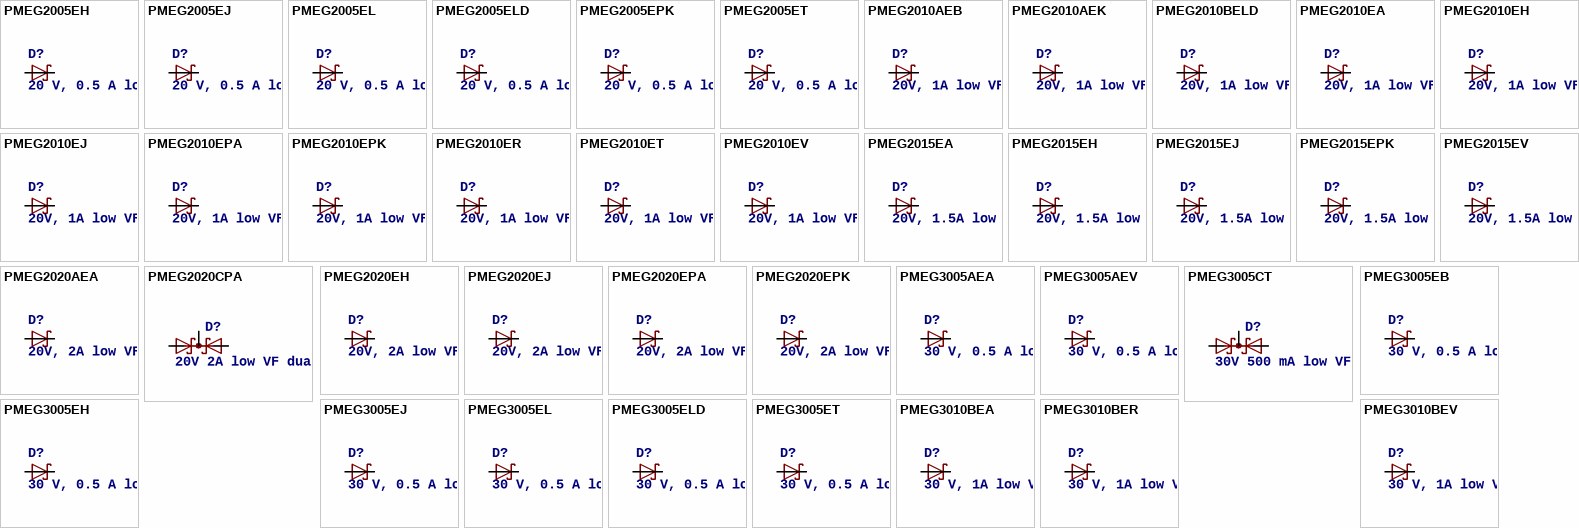
[diagram p169: symbols PMEG2005EH to PMEG3010BEV]

## PMEG2005EH
designator D?, comment 20 V, 0.5 A low VF MEGA Schottky barrier rectifier  Planar Maximum Efficiency General Application (MEGA) Schottky barrier rectifier with an integrated guard ring for stress protection, encapsulated in a Surface-Mounted Device (SMD)     AAL Eindhoven MK
footprint SOD123F
pins: 1 K, 2 A

## PMEG2005EJ
designator D?, comment 20 V, 0.5 A low VF MEGA Schottky barrier rectifier  Planar Maximum Efficiency General Application (MEGA) Schottky barrier rectifier with an integrated guard ring for stress protection, encapsulated in a Surface-Mounted Device (SMD)     AAL Eindhoven MK
footprint SOD323(F)
pins: 1 K, 2 A

## PMEG2005EL
designator D?, comment 20 V, 0.5 A low VF MEGA Schottky barrier rectifier  Planar Maximum Efficiency General Application (MEGA) Schottky barrier rectifier with an integrated guard ring for stress protection, encapsulated in a Surface-Mounted Device (SMD)     AAL Eindhoven MK
footprint SOD882(T)
pins: 1 K, 2 A

## PMEG2005ELD
designator D?, comment 20 V, 0.5 A low VF MEGA Schottky barrier rectifier  Planar Maximum Efficiency General Application (MEGA) Schottky barrier rectifier with an integrated guard ring for stress protection, encapsulated in a Surface-Mounted Device (SMD)     AAL Eindhoven MK
footprint SOD882D
pins: 1 K, 2 A

## PMEG2005EPK
designator D?, comment 20 V, 0.5 A low VF MEGA Schottky barrier rectifier  Planar Maximum Efficiency General Application (MEGA) Schottky barrier rectifier with an integrated guard ring for stress protection, encapsulated in a Surface-Mounted Device (SMD)     AAL Eindhoven MK
footprint SOD1608
pins: 1 K, 2 A

## PMEG2005ET
designator D?, comment 20 V, 0.5 A low VF MEGA Schottky barrier rectifier  Planar Maximum Efficiency General Application (MEGA) Schottky barrier rectifier with an integrated guard ring for stress protection, encapsulated in a Surface-Mounted Device (SMD)     AAL Eindhoven MK
footprint SOT23
pins: 1 A, 3 K

## PMEG2010AEB
designator D?, comment 20V, 1A low VF MEGA Schottky barrier rectifier  Planar Maximum Efficiency General Application (MEGA) Schottky barrier rectifier with an integrated guard ring for stress protection, encapsulated in a Surface-Mounted Device (SMD)     AAL Eindhoven MK
footprint SOD523
pins: 1 K, 2 A

## PMEG2010AEK
designator D?, comment 20V, 1A low VF MEGA Schottky barrier rectifier  Planar Maximum Efficiency General Application (MEGA) Schottky barrier rectifier with an integrated guard ring for stress protection, encapsulated in a Surface-Mounted Device (SMD)     AAL Eindhoven MK
REMARK: OBSOLETE
footprint SOT346
pins: 1 A, 3 K

## PMEG2010BELD
designator D?, comment 20V, 1A low VF MEGA Schottky barrier rectifier  Planar Maximum Efficiency General Application (MEGA) Schottky barrier rectifier with an integrated guard ring for stress protection, encapsulated in a Surface-Mounted Device (SMD)     AAL Eindhoven MK
footprint SOD882D
pins: 1 K, 2 A

## PMEG2010EA
designator D?, comment 20V, 1A low VF MEGA Schottky barrier rectifier  Planar Maximum Efficiency General Application (MEGA) Schottky barrier rectifier with an integrated guard ring for stress protection, encapsulated in a Surface-Mounted Device (SMD)     AAL Eindhoven MK
footprint SOD323(F)
pins: 1 K, 2 A

## PMEG2010EH
designator D?, comment 20V, 1A low VF MEGA Schottky barrier rectifier  Planar Maximum Efficiency General Application (MEGA) Schottky barrier rectifier with an integrated guard ring for stress protection, encapsulated in a Surface-Mounted Device (SMD)     AAL Eindhoven MK
footprint SOD123F
pins: 1 K, 2 A

## PMEG2010EJ
designator D?, comment 20V, 1A low VF MEGA Schottky barrier rectifier  Planar Maximum Efficiency General Application (MEGA) Schottky barrier rectifier with an integrated guard ring for stress protection, encapsulated in a Surface-Mounted Device (SMD)     AAL Eindhoven MK
footprint SOD323(F)
pins: 1 K, 2 A

## PMEG2010EPA
designator D?, comment 20V, 1A low VF MEGA Schottky barrier rectifier  Planar Maximum Efficiency General Application (MEGA) Schottky barrier rectifier with an integrated guard ring for stress protection, encapsulated in a Surface-Mounted Device (SMD)     AAL Eindhoven MK
footprint SOT1061
pins: 1 2 A, 3 K

## PMEG2010EPK
designator D?, comment 20V, 1A low VF MEGA Schottky barrier rectifier  Planar Maximum Efficiency General Application (MEGA) Schottky barrier rectifier with an integrated guard ring for stress protection, encapsulated in a Surface-Mounted Device (SMD)     AAL Eindhoven MK
footprint SOD1608
pins: 1 K, 2 A

## PMEG2010ER
designator D?, comment 20V, 1A low VF MEGA Schottky barrier rectifier  Planar Maximum Efficiency General Application (MEGA) Schottky barrier rectifier with an integrated guard ring for stress protection, encapsulated in a Surface-Mounted Device (SMD)     AAL Eindhoven MK
footprint SOD123W
pins: 1 K, 2 A

## PMEG2010ET
designator D?, comment 20V, 1A low VF MEGA Schottky barrier rectifier  Planar Maximum Efficiency General Application (MEGA) Schottky barrier rectifier with an integrated guard ring for stress protection, encapsulated in a Surface-Mounted Device (SMD)     AAL Eindhoven MK
footprint SOT23
pins: 1 A, 3 K

## PMEG2010EV
designator D?, comment 20V, 1A low VF MEGA Schottky barrier rectifier  Planar Maximum Efficiency General Application (MEGA) Schottky barrier rectifier with an integrated guard ring for stress protection, encapsulated in a Surface-Mounted Device (SMD)     AAL Eindhoven MK
footprint SOT666
pins: 1 2 5 6 K, 3 4 A

## PMEG2015EA
designator D?, comment 20V, 1.5A low VF MEGA Schottky barrier rectifier  Planar Maximum Efficiency General Application (MEGA) Schottky barrier rectifier with an integrated guard ring for stress protection, encapsulated in a Surface-Mounted Device (SMD)     AAL Eindhoven MK
footprint SOD323(F)
pins: 1 K, 2 A

## PMEG2015EH
designator D?, comment 20V, 1.5A low VF MEGA Schottky barrier rectifier  Planar Maximum Efficiency General Application (MEGA) Schottky barrier rectifier with an integrated guard ring for stress protection, encapsulated in a Surface-Mounted Device (SMD)     AAL Eindhoven MK
footprint SOD123F
pins: 1 K, 2 A

## PMEG2015EJ
designator D?, comment 20V, 1.5A low VF MEGA Schottky barrier rectifier  Planar Maximum Efficiency General Application (MEGA) Schottky barrier rectifier with an integrated guard ring for stress protection, encapsulated in a Surface-Mounted Device (SMD)     AAL Eindhoven MK
footprint SOD323(F)
pins: 1 K, 2 A

## PMEG2015EPK
designator D?, comment 20V, 1.5A low VF MEGA Schottky barrier rectifier  Planar Maximum Efficiency General Application (MEGA) Schottky barrier rectifier with an integrated guard ring for stress protection, encapsulated in a Surface-Mounted Device (SMD)     AAL Eindhoven MK
footprint SOD1608
pins: 1 K, 2 A

## PMEG2015EV
designator D?, comment 20V, 1.5A low VF MEGA Schottky barrier rectifier  Planar Maximum Efficiency General Application (MEGA) Schottky barrier rectifier with an integrated guard ring for stress protection, encapsulated in a Surface-Mounted Device (SMD)     AAL Eindhoven MK
footprint SOT666
pins: 1 2 5 6 K, 3 4 A

## PMEG2020AEA
designator D?, comment 20V, 2A low VF MEGA Schottky barrier rectifier  Planar Maximum Efficiency General Application (MEGA) Schottky barrier rectifier with an integrated guard ring for stress protection, encapsulated in a Surface-Mounted Device (SMD)     AAL Eindhoven MK
footprint SOD323(F)
pins: 1 K, 2 A

## PMEG2020CPA
designator D?, comment 20V 2A low VF dual MEGA Schottky barrier rectifier  Planar Maximum Efficiency General Application (MEGA) Schottky barrier rectifier in common cathode configuration with an integrated guard ring for stress protection, encapsulated in a SOT1061 leadless small Surface-Mounted Device (SMD) plastic package with medium power capability.    AAL Eindhoven MK
footprint SOT1061
pins: 1 A1, 2 A2, 3 K1K2

## PMEG2020EH
designator D?, comment 20V, 2A low VF MEGA Schottky barrier rectifier  Planar Maximum Efficiency General Application (MEGA) Schottky barrier rectifier with an integrated guard ring for stress protection, encapsulated in a Surface-Mounted Device (SMD)     AAL Eindhoven MK
footprint SOD123F
pins: 1 K, 2 A

## PMEG2020EJ
designator D?, comment 20V, 2A low VF MEGA Schottky barrier rectifier  Planar Maximum Efficiency General Application (MEGA) Schottky barrier rectifier with an integrated guard ring for stress protection, encapsulated in a Surface-Mounted Device (SMD)     AAL Eindhoven MK
REMARK: OBSOLETE
footprint SOD323(F)
pins: 1 K, 2 A

## PMEG2020EPA
designator D?, comment 20V, 2A low VF MEGA Schottky barrier rectifier  Planar Maximum Efficiency General Application (MEGA) Schottky barrier rectifier with an integrated guard ring for stress protection, encapsulated in a Surface-Mounted Device (SMD)     AAL Eindhoven MK
footprint SOT1061
pins: 1 2 A, 3 K

## PMEG2020EPK
designator D?, comment 20V, 2A low VF MEGA Schottky barrier rectifier  Planar Maximum Efficiency General Application (MEGA) Schottky barrier rectifier with an integrated guard ring for stress protection, encapsulated in a Surface-Mounted Device (SMD)     AAL Eindhoven MK
footprint SOD1608
pins: 1 K, 2 A

## PMEG3005AEA
designator D?, comment 30 V, 0.5 A low VF MEGA Schottky barrier rectifier  Planar Maximum Efficiency General Application (MEGA) Schottky barrier rectifier with an integrated guard ring for stress protection, encapsulated in a Surface-Mounted Device (SMD)     AAL Eindhoven MK
footprint SOD323(F)
pins: 1 K, 2 A

## PMEG3005AEV
designator D?, comment 30 V, 0.5 A low VF MEGA Schottky barrier rectifier  Planar Maximum Efficiency General Application (MEGA) Schottky barrier rectifier with an integrated guard ring for stress protection, encapsulated in a Surface-Mounted Device (SMD)     AAL Eindhoven MK
footprint SOT666
pins: 1 2 5 6 K, 3 4 A

## PMEG3005CT
designator D?, comment 30V 500 mA low VF dual MEGA Schottky barrier rectifier  Planar Maximum Efficiency General Application (MEGA) Schottky barrier rectifier in common cathode configuration with an integrated guard ring for stress protection, encapsulated in a SOT23 (TO-236AB) small Surface-Mounted Device (SMD) plastic package.   AAL Eindhoven MK
footprint SOT23
pins: 1 A1, 2 A2, 3 K1K2

## PMEG3005EB
designator D?, comment 30 V, 0.5 A low VF MEGA Schottky barrier rectifier  Planar Maximum Efficiency General Application (MEGA) Schottky barrier rectifier with an integrated guard ring for stress protection, encapsulated in a Surface-Mounted Device (SMD)     AAL Eindhoven MK
footprint SOD523
pins: 1 K, 2 A

## PMEG3005EH
designator D?, comment 30 V, 0.5 A low VF MEGA Schottky barrier rectifier  Planar Maximum Efficiency General Application (MEGA) Schottky barrier rectifier with an integrated guard ring for stress protection, encapsulated in a Surface-Mounted Device (SMD)     AAL Eindhoven MK
footprint SOD123F
pins: 1 K, 2 A

## PMEG3005EJ
designator D?, comment 30 V, 0.5 A low VF MEGA Schottky barrier rectifier  Planar Maximum Efficiency General Application (MEGA) Schottky barrier rectifier with an integrated guard ring for stress protection, encapsulated in a Surface-Mounted Device (SMD)     AAL Eindhoven MK
footprint SOD323(F)
pins: 1 K, 2 A

## PMEG3005EL
designator D?, comment 30 V, 0.5 A low VF MEGA Schottky barrier rectifier  Planar Maximum Efficiency General Application (MEGA) Schottky barrier rectifier with an integrated guard ring for stress protection, encapsulated in a Surface-Mounted Device (SMD)     AAL Eindhoven MK
footprint SOD882(T)
pins: 1 K, 2 A

## PMEG3005ELD
designator D?, comment 30 V, 0.5 A low VF MEGA Schottky barrier rectifier  Planar Maximum Efficiency General Application (MEGA) Schottky barrier rectifier with an integrated guard ring for stress protection, encapsulated in a Surface-Mounted Device (SMD)     AAL Eindhoven MK
footprint SOD882D
pins: 1 K, 2 A

## PMEG3005ET
designator D?, comment 30 V, 0.5 A low VF MEGA Schottky barrier rectifier  Planar Maximum Efficiency General Application (MEGA) Schottky barrier rectifier with an integrated guard ring for stress protection, encapsulated in a Surface-Mounted Device (SMD)     AAL Eindhoven MK
footprint SOT23
pins: 1 A, 3 K

## PMEG3010BEA
designator D?, comment 30 V, 1A low VF MEGA Schottky barrier rectifier  Planar Maximum Efficiency General Application (MEGA) Schottky barrier rectifier with an integrated guard ring for stress protection, encapsulated in a Surface-Mounted Device (SMD)     AAL Eindhoven MK
footprint SOD323(F)
pins: 1 K, 2 A

## PMEG3010BER
designator D?, comment 30 V, 1A low VF MEGA Schottky barrier rectifier  Planar Maximum Efficiency General Application (MEGA) Schottky barrier rectifier with an integrated guard ring for stress protection, encapsulated in a Surface-Mounted Device (SMD)     AAL Eindhoven MK
footprint SOD123W
pins: 1 K, 2 A

## PMEG3010BEV
designator D?, comment 30 V, 1A low VF MEGA Schottky barrier rectifier  Planar Maximum Efficiency General Application (MEGA) Schottky barrier rectifier with an integrated guard ring for stress protection, encapsulated in a Surface-Mounted Device (SMD)     AAL Eindhoven MK
footprint SOT666
pins: 1 2 5 6 K, 3 4 A

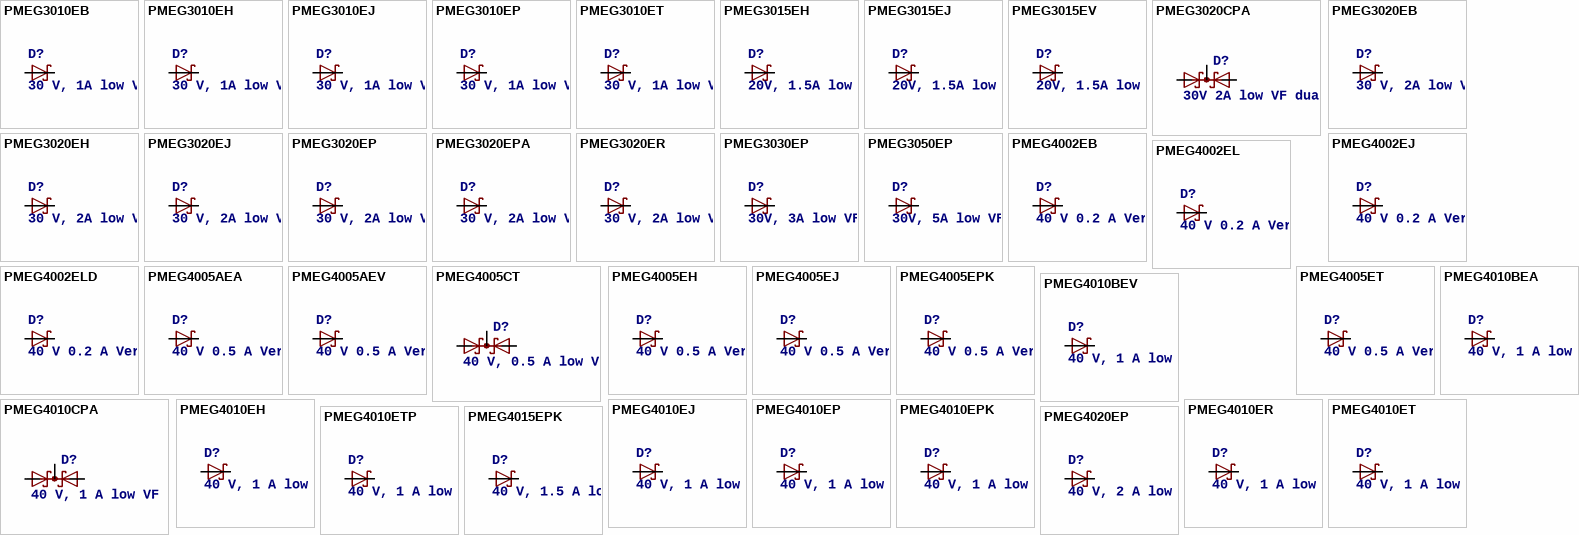
[diagram p170: symbols PMEG3010EB to PMEG4020EP]

## PMEG3010EB
designator D?, comment 30 V, 1A low VF MEGA Schottky barrier rectifier  Planar Maximum Efficiency General Application (MEGA) Schottky barrier rectifier with an integrated guard ring for stress protection, encapsulated in a Surface-Mounted Device (SMD)     AAL Eindhoven MK
footprint SOD523
pins: 1 K, 2 A

## PMEG3010EH
designator D?, comment 30 V, 1A low VF MEGA Schottky barrier rectifier  Planar Maximum Efficiency General Application (MEGA) Schottky barrier rectifier with an integrated guard ring for stress protection, encapsulated in a Surface-Mounted Device (SMD)     AAL Eindhoven MK
footprint SOD123F
pins: 1 K, 2 A

## PMEG3010EJ
designator D?, comment 30 V, 1A low VF MEGA Schottky barrier rectifier  Planar Maximum Efficiency General Application (MEGA) Schottky barrier rectifier with an integrated guard ring for stress protection, encapsulated in a Surface-Mounted Device (SMD)     AAL Eindhoven MK
footprint SOD323(F)
pins: 1 K, 2 A

## PMEG3010EP
designator D?, comment 30 V, 1A low VF MEGA Schottky barrier rectifier  Planar Maximum Efficiency General Application (MEGA) Schottky barrier rectifier with an integrated guard ring for stress protection, encapsulated in a Surface-Mounted Device (SMD)     AAL Eindhoven MK
footprint SOD128
pins: 1 K, 2 A

## PMEG3010ET
designator D?, comment 30 V, 1A low VF MEGA Schottky barrier rectifier  Planar Maximum Efficiency General Application (MEGA) Schottky barrier rectifier with an integrated guard ring for stress protection, encapsulated in a Surface-Mounted Device (SMD)     AAL Eindhoven MK
footprint SOT23
pins: 1 A, 3 K

## PMEG3015EH
designator D?, comment 20V, 1.5A low VF MEGA Schottky barrier rectifier  Planar Maximum Efficiency General Application (MEGA) Schottky barrier rectifier with an integrated guard ring for stress protection, encapsulated in a Surface-Mounted Device (SMD)     AAL Eindhoven MK
footprint SOD123F
pins: 1 K, 2 A

## PMEG3015EJ
designator D?, comment 20V, 1.5A low VF MEGA Schottky barrier rectifier  Planar Maximum Efficiency General Application (MEGA) Schottky barrier rectifier with an integrated guard ring for stress protection, encapsulated in a Surface-Mounted Device (SMD)     AAL Eindhoven MK
footprint SOD323(F)
pins: 1 K, 2 A

## PMEG3015EV
designator D?, comment 20V, 1.5A low VF MEGA Schottky barrier rectifier  Planar Maximum Efficiency General Application (MEGA) Schottky barrier rectifier with an integrated guard ring for stress protection, encapsulated in a Surface-Mounted Device (SMD)     AAL Eindhoven MK
footprint SOT666
pins: 1 2 5 6 K, 3 4 A

## PMEG3020CPA
designator D?, comment 30V 2A low VF dual MEGA Schottky barrier rectifier  Planar Maximum Efficiency General Application (MEGA) Schottky barrier rectifier in common cathode configuration with an integrated guard ring for stress protection, encapsulated in a SOT1061 leadless small Surface-Mounted Device (SMD) plastic package with medium power capability.    AAL Eindhoven MK
footprint SOT1061
pins: 1 A1, 2 A2, 3 K1K2

## PMEG3020EB
designator D?, comment 30 V, 2A low VF MEGA Schottky barrier rectifier  Planar Maximum Efficiency General Application (MEGA) Schottky barrier rectifier with an integrated guard ring for stress protection, encapsulated in a Surface-Mounted Device (SMD)     AAL Eindhoven MK
footprint SOD523
pins: 1 K, 2 A

## PMEG3020EH
designator D?, comment 30 V, 2A low VF MEGA Schottky barrier rectifier  Planar Maximum Efficiency General Application (MEGA) Schottky barrier rectifier with an integrated guard ring for stress protection, encapsulated in a Surface-Mounted Device (SMD)     AAL Eindhoven MK
footprint SOD123F
pins: 1 K, 2 A

## PMEG3020EJ
designator D?, comment 30 V, 2A low VF MEGA Schottky barrier rectifier  Planar Maximum Efficiency General Application (MEGA) Schottky barrier rectifier with an integrated guard ring for stress protection, encapsulated in a Surface-Mounted Device (SMD)     AAL Eindhoven MK
footprint SOD323(F)
pins: 1 K, 2 A

## PMEG3020EP
designator D?, comment 30 V, 2A low VF MEGA Schottky barrier rectifier  Planar Maximum Efficiency General Application (MEGA) Schottky barrier rectifier with an integrated guard ring for stress protection, encapsulated in a Surface-Mounted Device (SMD)     AAL Eindhoven MK
footprint SOD128
pins: 1 K, 2 A

## PMEG3020EPA
designator D?, comment 30 V, 2A low VF MEGA Schottky barrier rectifier  Planar Maximum Efficiency General Application (MEGA) Schottky barrier rectifier with an integrated guard ring for stress protection, encapsulated in a Surface-Mounted Device (SMD)     AAL Eindhoven MK
footprint SOT1061
pins: 1 2 A, 3 K

## PMEG3020ER
designator D?, comment 30 V, 2A low VF MEGA Schottky barrier rectifier  Planar Maximum Efficiency General Application (MEGA) Schottky barrier rectifier with an integrated guard ring for stress protection, encapsulated in a Surface-Mounted Device (SMD)     AAL Eindhoven MK
footprint SOD123W
pins: 1 K, 2 A

## PMEG3030EP
designator D?, comment 30V, 3A low VF MEGA Schottky barrier rectifier  Planar Maximum Efficiency General Application (MEGA) Schottky barrier rectifier with an integrated guard ring for stress protection, encapsulated in a Surface-Mounted Device (SMD)     AAL Eindhoven MK
footprint SOD128
pins: 1 K, 2 A

## PMEG3050EP
designator D?, comment 30V, 5A low VF MEGA Schottky barrier rectifier  Planar Maximum Efficiency General Application (MEGA) Schottky barrier rectifier with an integrated guard ring for stress protection, encapsulated in a Surface-Mounted Device (SMD)     AAL Eindhoven MK
footprint SOD128
pins: 1 K, 2 A